# EAGLE library part MIC5891 (library Ai_IC)
8-Bit Serial-Input Latched Source Driver. Source: http://www.micrel.com/_PDF/mic5891.pdf
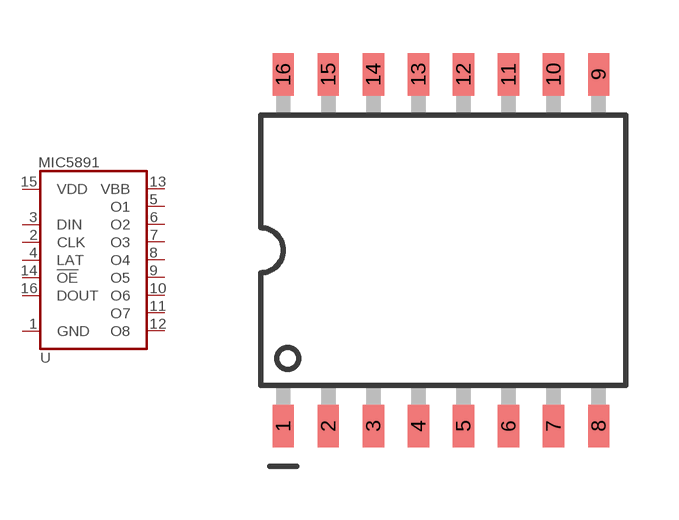
[diagram p2: symbol with the pads of SOIC16-WM; footprint SOIC16-WM]

Designator prefix U

## MIC5891  [SOIC16-WM]
1  GND  pwr
2  CLK
3  DIN  in
4  LAT
5  O1
6  O2
7  O3
8  O4
9  O5
10  O6
11  O7
12  O8
13  VBB  pwr
14  !OE
15  VDD  pwr
16  DOUT  out

## Footprint SOIC16-WM (pad centres in mm)
smd 0.6 x 1.2: 1 -4.445,-4.959; 2 -3.175,-4.959; 3 -1.905,-4.959; 4 -0.635,-4.959; 5 0.635,-4.959; 6 1.905,-4.959; 7 3.175,-4.959; 8 4.445,-4.959; 9 4.445,4.959; 10 3.175,4.959; 11 1.905,4.959; 12 0.635,4.959; 13 -0.635,4.959; 14 -1.905,4.959; 15 -3.175,4.959; 16 -4.445,4.959